# EAGLE library part LM2676?-* (library SteMarie)
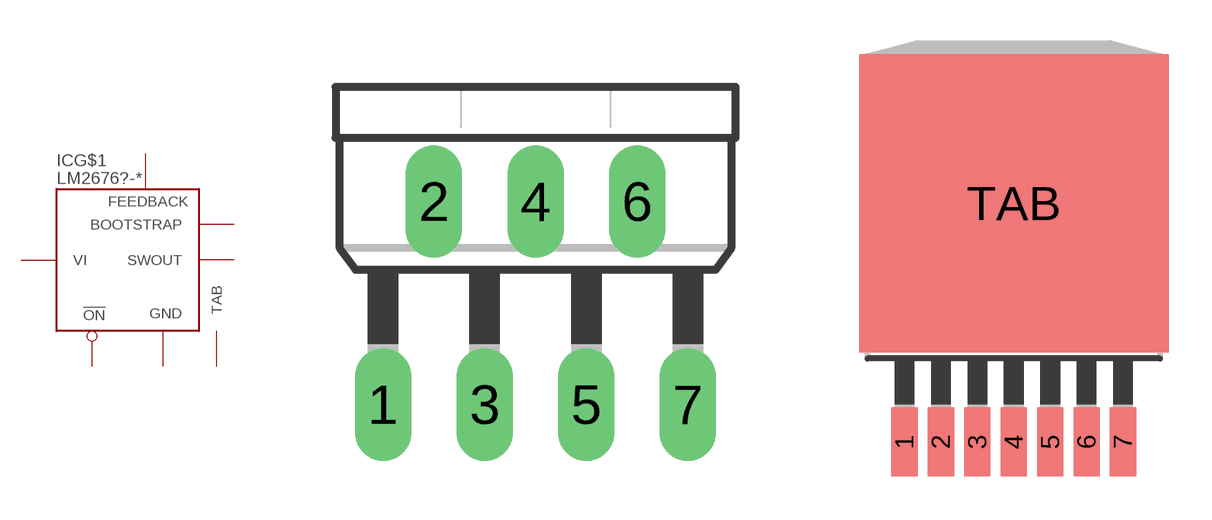
[diagram p5: symbol with the pads of TO220-7; footprints TO220-7, TO263-7]

Designator prefix IC; gates G$1=LM2_76 G$2=TAB

## LM2676T-12, LM2676T-3.3, LM2676T-5.0, LM2676T-ADJ  [TO220-7]
1  G$1:SWOUT  pas
2  G$1:VI  in
3  G$1:BOOTSTRAP  pas
4  G$1:GND  pwr
6  G$1:FEEDBACK  in
7  G$1:!ON  in

## LM2676S-12, LM2676S-3.3, LM2676S-5.0, LM2676S-ADJ  [TO263-7]
1  G$1:SWOUT  pas
2  G$1:VI  in
3  G$1:BOOTSTRAP  pas
4  G$1:GND  pwr
6  G$1:FEEDBACK  in
7  G$1:!ON  in
TAB  G$2:TAB  pas

## Footprint TO220-7 (pad centres in mm)
drill 0.9 long: 1 -3.81,-5.08; 2 -2.54,0; 3 -1.27,-5.08; 4 0,0; 5 1.27,-5.08; 6 2.54,0; 7 3.81,-5.08

## Footprint TO263-7 (pad centres in mm)
Modified TO-263 used by National for its "Simple Switcher" line of switching voltage regulators.
smd 0.914 x 2.413: 1 -3.81,-5.791; 2 -2.54,-5.791; 3 -1.27,-5.791; 4 0,-5.791; 5 1.27,-5.791; 6 2.54,-5.791; 7 3.81,-5.791
smd 10.795 x 10.414: TAB 0,2.54